# EAGLE library part M95256-WMN6TP (library M95256)
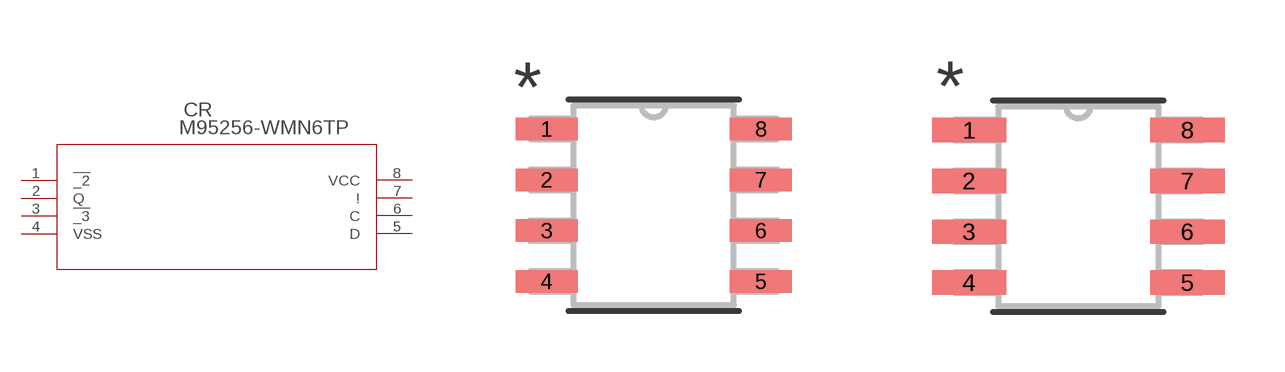
[diagram p0: symbol with the pads of SO-8; footprints SO-8, SO-8-M]

Designator prefix CR

## M95256-WMN6TP (MANUFACTURER_PART_NUMBER: M95256WMN6TP; VENDOR: STMicroelectronics)  [SO-8]
1  !_2  pas
2  Q  out
3  !_3  pas
4  VSS  pwr
5  D  in
6  C  pas
7  !  pas
8  VCC  pwr

## M95256-WMN6TPSO-8-M (MANUFACTURER_PART_NUMBER: M95256WMN6TP; VENDOR: STMicroelectronics)  [SO-8-M]
Pads as for SO-8

## M95256-WMN6TPSO-8-L (MANUFACTURER_PART_NUMBER: M95256WMN6TP; VENDOR: STMicroelectronics)  [SO-8-L]
Pads as for SO-8

## Footprint SO-8 (pad centres in mm)
smd 1.549 x 0.559: 1 -2.68,1.905; 2 -2.68,0.635; 3 -2.68,-0.635; 4 -2.68,-1.905; 5 2.68,-1.905; 6 2.68,-0.635; 7 2.68,0.635; 8 2.68,1.905

## Footprint SO-8-M (pad centres in mm)
smd 1.854 x 0.61: 1 -2.731,1.905; 2 -2.731,0.635; 3 -2.731,-0.635; 4 -2.731,-1.905; 5 2.731,-1.905; 6 2.731,-0.635; 7 2.731,0.635; 8 2.731,1.905

## Footprint SO-8-L (pad centres in mm)
smd 1.245 x 0.508: 1 -2.629,1.905; 2 -2.629,0.635; 3 -2.629,-0.635; 4 -2.629,-1.905; 5 2.629,-1.905; 6 2.629,-0.635; 7 2.629,0.635; 8 2.629,1.905